# Altium footprint library 16soic150.PcbLib: 1 footprints
Each footprint in its own frame and in the unit in brackets; x right, y up, seen from the top. Pads: shape width x height; smd on the part's side, far side on the other; paste and mask are expansions set on the pad; w line width, h text height; cw(c..) or ccw(c..) is an arc to the next point about the centre after c.
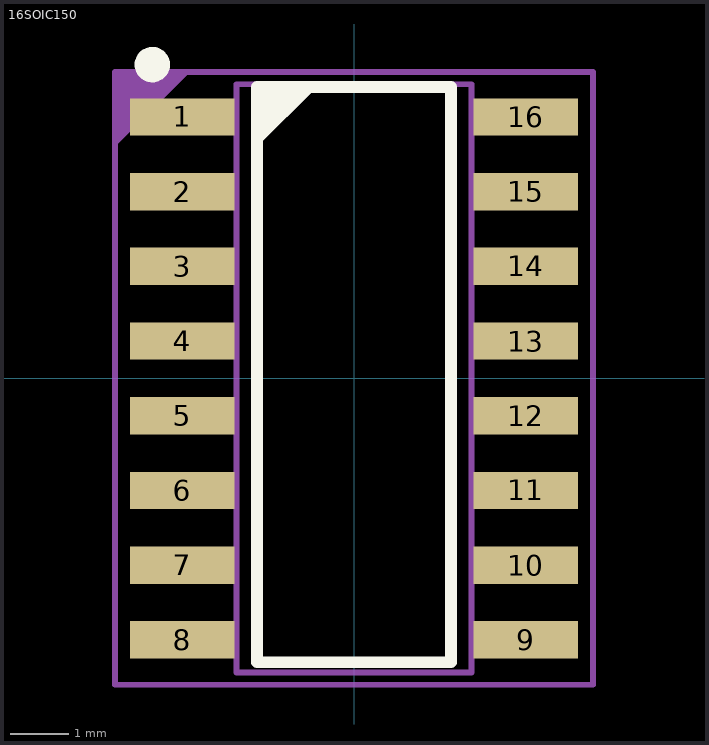
[diagram p0: the footprint, top view; thin cyan lines are the x and y axes]

## 16SOIC150 [mil] "SOIC, 16-Leads, Body 10.0x4.0mm (max), Pitch 1.27mm, IPC High Density"
height 92.52
pads (16):
  rect 70x25 smd: 1(-115,175) 2(-115,125) 3(-115,75) 4(-115,25) 5(-115,-25) 6(-115,-75) 7(-115,-125) 8(-115,-175) 9(115,-175) 10(115,-125) 11(115,-75) 12(115,-25) 13(115,25) 14(115,75) 15(115,125) 16(115,175)
Top Overlay:
  circle w11.81: c-135,210 r5.91
  region: -65,195 -25,195 -65,155
  lines w7.87: -65,-190 -65,195 65,195 65,-190 -65,-190
Top 3D Body:
  lines w3.94: -78.74,-196.85 -78.74,196.85 78.74,196.85 78.74,-196.85 -78.74,-196.85
Top Courtyard:
  region: -160,205 -110,205 -160,155
  lines w3.94: -160,-205 -160,205 160,205 160,-205 -160,-205
Top Designator (Mech17):
  text ".Designator" at -50.28,-7.4 h23.62
3D body "User Library-SOIC-16-1.step": height 55.12, standoff 0, extent -118.11,-194.88 118.11,194.89